# Altium schematic symbol library MolexMicroFit3_5POS_RA.SchLib: 1 symbol
Pins are listed as number, name and electrical type; pins without a type are passive.

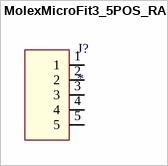
[diagram p0: symbol MolexMicroFit3_5POS_RA]

## MolexMicroFit3_5POS_RA
designator J?
CONN HEADER 5POS R/A W/NAIL SMD / Manufacturer PN: 0436500512
footprint MolexMicroFit3_5POS_RA
pins: 1, 2, 3, 4, 5